# EAGLE library part TE-969973-8 (library TE-969973-FemaleHeaderSMD)
TE 969973 16-way 2x8 SMD Female Header
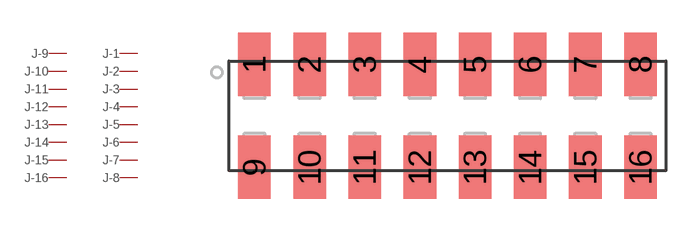
[diagram p3: symbol with the pads of 969973-8; footprint 969973-8]

Designator prefix J; gates -1=PIN -2=PIN -3=PIN -4=PIN -5=PIN -6=PIN -7=PIN -8=PIN -9=PIN -10=PIN -11=PIN -12=PIN -13=PIN -14=PIN -15=PIN -16=PIN

## TE-969973-8  [969973-8]
1  -1:P$1
2  -2:P$1
3  -3:P$1
4  -4:P$1
5  -5:P$1
6  -6:P$1
7  -7:P$1
8  -8:P$1
9  -9:P$1
10  -10:P$1
11  -11:P$1
12  -12:P$1
13  -13:P$1
14  -14:P$1
15  -15:P$1
16  -16:P$1

## Footprint 969973-8 (pad centres in mm)
smd 1.5 x 2.93: 1 -8.89,2.375; 2 -6.35,2.375; 3 -3.81,2.375; 4 -1.27,2.375; 5 1.27,2.375; 6 3.81,2.375; 7 6.35,2.375; 8 8.89,2.375; 9 -8.89,-2.375; 10 -6.35,-2.375; 11 -3.81,-2.375; 12 -1.27,-2.375; 13 1.27,-2.375; 14 3.81,-2.375; 15 6.35,-2.375; 16 8.89,-2.375